# Altium footprint library MEGA.PcbLib: 237 footprints (part 9 of 15)
Each footprint in its own frame and in the unit in brackets; x right, y up, seen from the top. Pads: shape width x height; smd on the part's side, far side on the other; paste and mask are expansions set on the pad; w line width, h text height; cw(c..) or ccw(c..) is an arc to the next point about the centre after c.
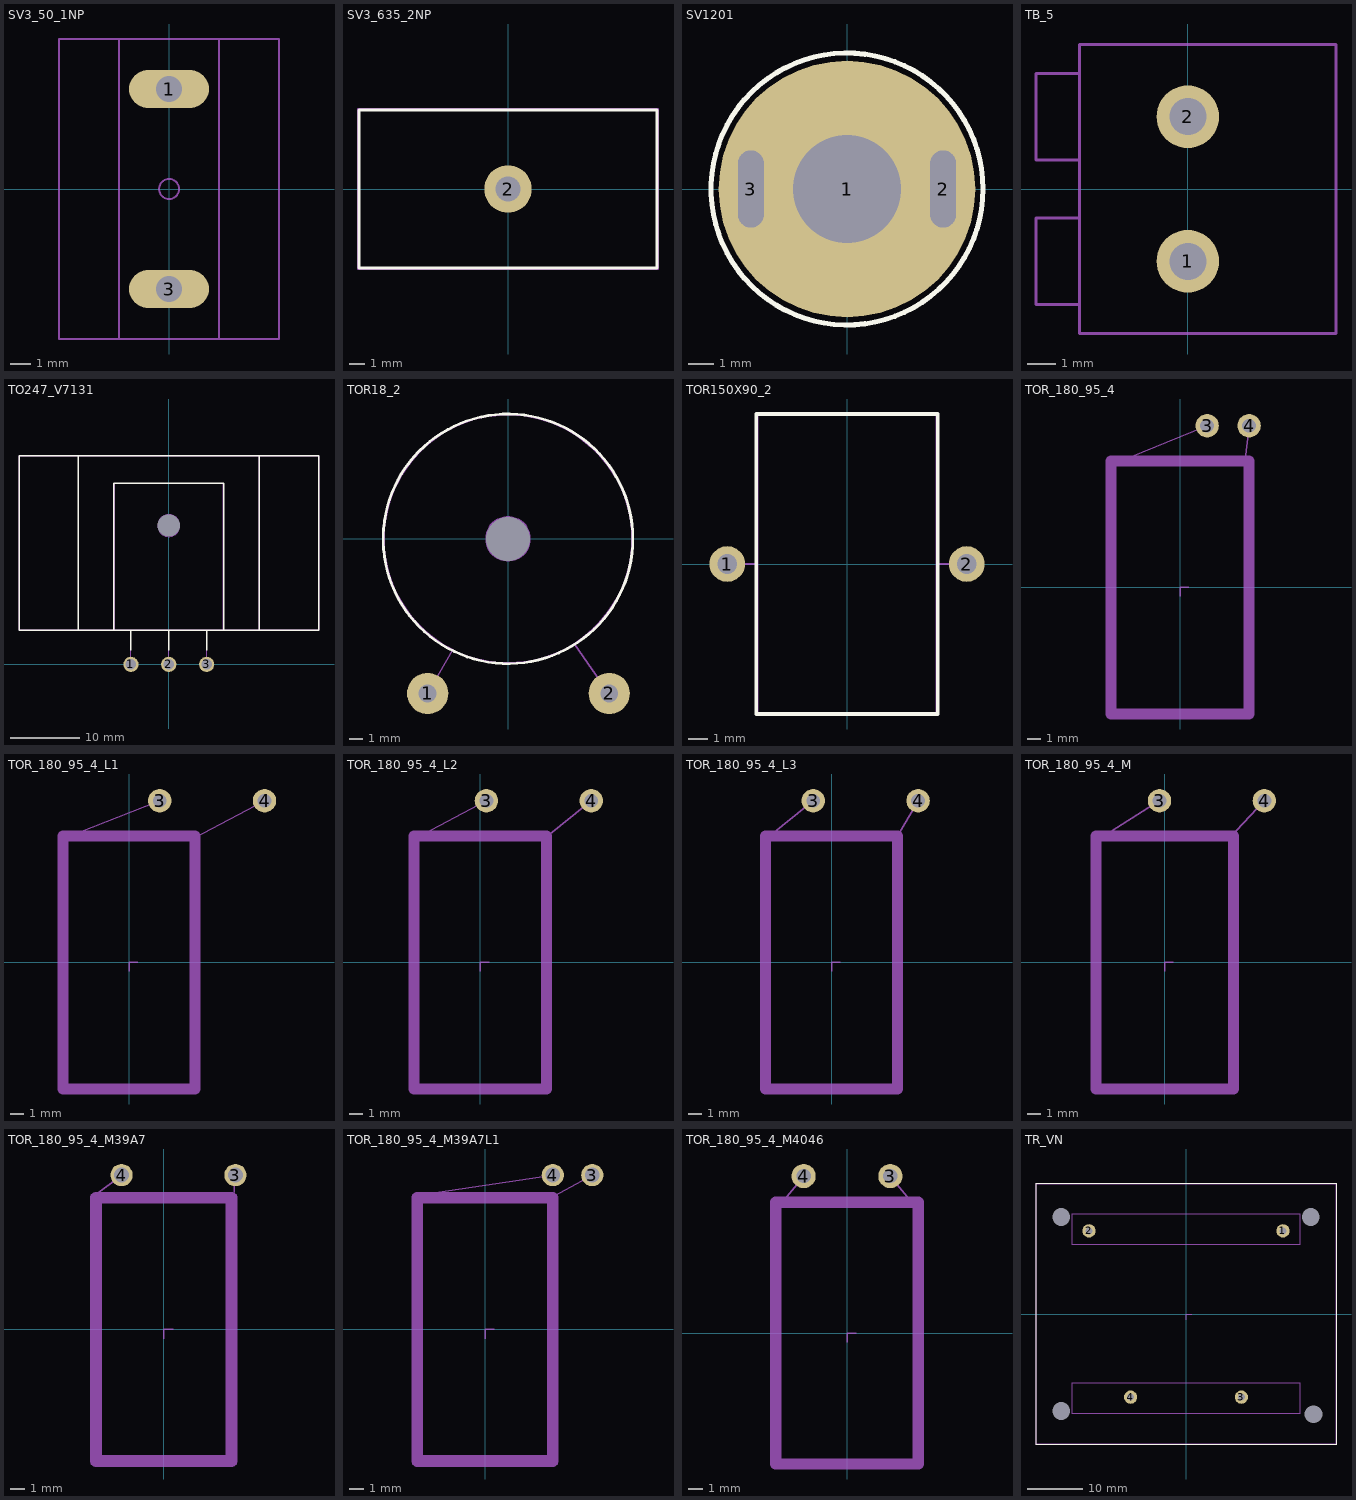
[diagram p8: the footprints below, top view; thin cyan lines are the x and y axes]

## SV3_50_1NP [mm]
pads (2):
  oval 4x1.9 hole 1.3 mask+0.1: 1(0,5) 3(0,-5)
Mechanical 15:
  circle w0.1: c0,5 r0.65
  circle w0.1: c0,-5 r0.65
  lines w0.1: -5.5,-7.5 5.5,-7.5 5.5,7.5 -5.5,7.5 -5.5,-7.5
Mechanical 16:
  circle w0.1: c0,-5 r0.65
  circle w0.1: c0,5 r0.65
Mechanical 19:
  circle w0.1: c0,0 r0.5
  lines w0.1: -2.5,-7.5 -2.5,7.5 ; 2.5,-7.5 2.5,7.5

## SV3_635_2NP [mm]
height 9.5
pads (1):
  round 3 hole 1.6 mask+0.1: 2(0,0)
Top Overlay:
  lines w0.2: -9.461,-5.016 9.461,-5.016 9.461,5.016 -9.461,5.016 -9.461,-5.016
Mechanical 15:
  lines w0.1: -9.525,-5.08 9.525,-5.08 9.525,5.08 -9.525,5.08 -9.525,-5.08
Mechanical 20:
  lines w0.1: -9.461,-5.016 9.461,-5.016 9.461,5.016 -9.461,5.016 -9.461,-5.016

## SV1201 [mm]
pads (3):
  round 10 / inner round 10 / far side oval 10x6.2 hole 4.2 mask+0.05: 1(0,0)
  oval 2.2x4.2 hole 1 slot 3 at 90 deg mask+0.05: 2(3.746,0) 3(-3.746,0)
Top Overlay:
  circle w0.2: c0,0 r5.3
Mechanical 15:
  lines w0.01: -2.303,-4.198 cw(c-0.024,0) -2.296,4.202 ; -2.301,-4.2 ccw(c0,-0.1) 2.301,-4.2 ccw(c0.03,0) 2.301,4.2 ; -2.3,4.2 -1.3,4.2 -1.3,4.6 1.3,4.6 1.3,4.2 2.3,4.2
Multi-Layer:
  text "Value" at -1.19,-1.777 h0.75
Mechanical 20:
  circle w0.01: c0,0 r5.3

## TB_5 [mm]
pads (2):
  round 2.2 hole 1.3 mask+0.1: 1(0,-2.54) 2(0,2.54)
Mechanical 15:
  lines w0.1: -5.334,-4.064 -5.334,-1.016 -3.81,-1.016 -3.81,-4.064 -5.334,-4.064 ; -5.334,1.016 -5.334,4.064 -3.81,4.064 -3.81,1.016 -5.334,1.016 ; -3.81,-5.08 5.207,-5.08 5.207,5.08 -3.81,5.08 -3.81,-5.08

## TO247_V7131 [mm]
pads (4):
  round 2.2 hole 1.5 mask+0.1: 1(-5.461,0) 2(0,0) 3(5.461,0)
  round 0 hole 3.2 unplated: HL1(0,20.002)
Top Overlay:
  lines w0.2: -13.018,4.953 -13.018,30.035 ; -7.938,4.953 -7.938,26.098 7.938,26.098 7.938,4.953 ; -5.461,2.032 -5.461,4.953 ; 0,2.032 0,4.953 ; 5.461,2.032 5.461,4.953 ; 13.018,4.953 13.018,30.035 ; -21.59,4.953 21.653,4.953 21.653,30.035 -21.59,30.035 -21.59,4.953
Mechanical 15:
  circle w0.1: c0,20.002 r1.6
  lines w0.1: -13.018,5.016 -13.018,29.972 ; -5.461,0 -5.461,5.016 ; 0,0 0,5.016 ; 5.461,0 5.461,5.016 ; 13.018,5.016 13.018,29.972 ; -21.526,5.016 21.59,5.016 21.59,29.972 -21.526,29.972 -21.526,5.016 ; -7.874,5.016 7.874,5.016 7.874,26.035 -7.874,26.035 -7.874,5.016
Mechanical 16:
  circle w0.1: c0,20.002 r1.6
Multi-Layer:
  text "Value" at -1.135,8.378 h0.75
Mechanical 20:
  lines w0.1: -21.59,4.953 21.653,4.953 21.653,30.035 -21.59,30.035 -21.59,4.953

## TOR18_2 [mm]
pads (3):
  round 3 hole 1.3 mask+0.1: 1(-5.842,-11.239) 2(7.366,-11.239)
  round 0 hole 3.2 unplated: HL1(0,0)
Top Overlay:
  circle w0.2: c0,0 r9.08
Mechanical 15:
  circle w0.1: c0,0 r9.017
  circle w0.1: c0,0 r1.6
  lines w0.1: -5.842,-11.239 -4,-8.064 ; 4.826,-7.62 7.366,-11.303
Mechanical 16:
  circle w0.1: c0,0 r1.6
Mechanical 20:
  circle w0.1: c0,0 r9.08

## TOR150X90_2 [mm]
pads (2):
  round 1.8 hole 1 mask+0.1: 1(-6.032,0) 2(6.032,0)
Top Overlay:
  lines w0.2: -4.572,-7.556 4.572,-7.556 4.572,7.556 -4.572,7.556 -4.572,-7.556
Mechanical 15:
  lines w0.1: -6,0 -4.5,0 ; 4.5,0 6,0 ; -4.5,-7.5 4.5,-7.5 4.5,7.5 -4.5,7.5 -4.5,-7.5
Multi-Layer:
  text "Value" at -1.235,-1.425 h0.75
Mechanical 20:
  lines w0.1: -4.572,-7.556 4.572,-7.556 4.572,7.556 -4.572,7.556 -4.572,-7.556

## TOR_180_95_4 [mm]
pads (2):
  round 1.7 hole 1 mask+0.1: 3(1.968,11.747) 4(5.016,11.747)
Mechanical 15:
  circle w0.1: c1.968,11.747 r0.5
  circle w0.1: c5.016,11.747 r0.5
  lines w0.1: -4.699,9.017 1.968,11.747 ; 4.699,9.017 5.016,11.747 ; -4.8,-9 4.8,-9 4.8,9 -4.8,9 -4.8,-9
Mechanical 16:
  circle w0.1: c1.968,11.747 r0.5
  circle w0.1: c5.016,11.747 r0.5
  lines w0.8: -5,-9.2 -5,9.2 5,9.2 5,-9.2 -5,-9.2
Multi-Layer:
  text "Value" at -1.235,-0.869 h0.75
Mechanical 19:
  lines w0.1: 0,-0.635 0,0 0.635,0
Mechanical 20:
  lines w0.1: -4.889,-9.08 4.889,-9.08 4.889,9.08 -4.889,9.08 -4.889,-9.08

## TOR_180_95_4_L1 [mm]
pads (2):
  round 1.7 hole 1 mask+0.1: 3(2.222,11.747) 4(9.842,11.747)
Mechanical 15:
  circle w0.1: c2.222,11.747 r0.5
  circle w0.1: c9.842,11.747 r0.5
  lines w0.1: -4.699,9.017 2.222,11.747 ; 4.699,9.017 9.842,11.747 ; -4.8,-9 4.8,-9 4.8,9 -4.8,9 -4.8,-9
Mechanical 16:
  circle w0.1: c2.222,11.747 r0.5
  circle w0.1: c9.842,11.747 r0.5
  lines w0.8: -4.8,-9.2 -4.8,9.2 4.8,9.2 4.8,-9.2 -4.8,-9.2
Multi-Layer:
  text "Value" at -1.235,-0.869 h0.75
Mechanical 19:
  lines w0.1: 0,-0.635 0,0 0.635,0
Mechanical 20:
  lines w0.1: -4.889,-9.08 4.889,-9.08 4.889,9.08 -4.889,9.08 -4.889,-9.08

## TOR_180_95_4_L2 [mm]
pads (2):
  round 1.7 hole 1 mask+0.1: 3(0.445,11.747) 4(8.064,11.747)
Mechanical 15:
  circle w0.1: c0.445,11.747 r0.5
  circle w0.1: c8.064,11.747 r0.5
  lines w0.1: -4.699,9.017 0.445,11.747 ; 4.699,9.017 8.064,11.747 ; -4.8,-9 4.8,-9 4.8,9 -4.8,9 -4.8,-9
Mechanical 16:
  circle w0.1: c0.445,11.747 r0.5
  circle w0.1: c8.064,11.747 r0.5
  lines w0.8: -4.8,-9.2 -4.8,9.2 4.8,9.2 4.8,-9.2 -4.8,-9.2
Multi-Layer:
  text "Value" at -1.235,-0.869 h0.75
Mechanical 19:
  lines w0.1: 0,-0.635 0,0 0.635,0
Mechanical 20:
  lines w0.1: -4.889,-9.08 4.889,-9.08 4.889,9.08 -4.889,9.08 -4.889,-9.08

## TOR_180_95_4_L3 [mm]
pads (2):
  round 1.7 hole 1 mask+0.1: 3(-1.333,11.747) 4(6.286,11.747)
Mechanical 15:
  circle w0.1: c-1.333,11.747 r0.5
  circle w0.1: c6.286,11.747 r0.5
  lines w0.1: -4.699,9.017 -1.333,11.747 ; 4.699,9.017 6.286,11.747 ; -4.8,-9 4.8,-9 4.8,9 -4.8,9 -4.8,-9
Mechanical 16:
  circle w0.1: c-1.333,11.747 r0.5
  circle w0.1: c6.286,11.747 r0.5
  lines w0.8: -4.8,-9.2 -4.8,9.2 4.8,9.2 4.8,-9.2 -4.8,-9.2
Multi-Layer:
  text "Value" at -1.235,-0.869 h0.75
Mechanical 19:
  lines w0.1: 0,-0.635 0,0 0.635,0
Mechanical 20:
  lines w0.1: -4.889,-9.08 4.889,-9.08 4.889,9.08 -4.889,9.08 -4.889,-9.08

## TOR_180_95_4_M [mm]
pads (2):
  round 1.7 hole 1 mask+0.1: 3(-0.381,11.747) 4(7.239,11.747)
Mechanical 15:
  circle w0.1: c-0.381,11.747 r0.5
  circle w0.1: c7.239,11.747 r0.5
  lines w0.1: -4.699,9.017 -0.381,11.747 ; 4.699,9.017 7.239,11.747 ; -4.8,-9 4.8,-9 4.8,9 -4.8,9 -4.8,-9
Mechanical 16:
  circle w0.1: c-0.381,11.747 r0.5
  circle w0.1: c7.239,11.747 r0.5
  lines w0.8: -5,-9.2 -5,9.2 5,9.2 5,-9.2 -5,-9.2
Multi-Layer:
  text "Value" at -1.235,-0.869 h0.75
Mechanical 19:
  lines w0.1: 0,-0.635 0,0 0.635,0
Mechanical 20:
  lines w0.1: -4.889,-9.08 4.889,-9.08 4.889,9.08 -4.889,9.08 -4.889,-9.08

## TOR_180_95_4_M39A7 [mm]
pads (2):
  round 1.5 hole 1 mask+0.05: 3(4.826,10.414) 4(-2.857,10.414)
Mechanical 15:
  circle w0.1: c-2.857,10.414 r0.5
  circle w0.1: c4.826,10.414 r0.5
  lines w0.1: -4.699,9.017 -2.857,10.414 ; 4.699,9.017 4.826,10.414 ; -4.8,-9 4.8,-9 4.8,9 -4.8,9 -4.8,-9
Mechanical 16:
  circle w0.1: c-2.857,10.414 r0.5
  circle w0.1: c4.826,10.414 r0.5
  lines w0.8: -4.572,-8.89 -4.572,8.89 4.572,8.89 4.572,-8.89 -4.572,-8.89
Multi-Layer:
  text "Value" at -1.235,-0.869 h0.75
Mechanical 19:
  lines w0.1: 0,-0.635 0,0 0.635,0
Mechanical 20:
  lines w0.1: -4.889,-9.08 4.889,-9.08 4.889,9.08 -4.889,9.08 -4.889,-9.08

## TOR_180_95_4_M39A7L1 [mm]
pads (2):
  round 1.5 hole 1 mask+0.05: 3(7.239,10.414) 4(4.572,10.414)
Mechanical 15:
  circle w0.1: c4.572,10.414 r0.5
  circle w0.1: c7.239,10.414 r0.5
  lines w0.1: -4.699,9.017 4.572,10.414 ; 4.699,9.017 7.239,10.414 ; -4.8,-9 4.8,-9 4.8,9 -4.8,9 -4.8,-9
Mechanical 16:
  circle w0.1: c4.572,10.414 r0.5
  circle w0.1: c7.239,10.414 r0.5
  lines w0.8: -4.572,-8.89 -4.572,8.89 4.572,8.89 4.572,-8.89 -4.572,-8.89
Mechanical 19:
  lines w0.1: 0,-0.635 0,0 0.635,0
Mechanical 20:
  lines w0.1: -4.889,-9.08 4.889,-9.08 4.889,9.08 -4.889,9.08 -4.889,-9.08

## TOR_180_95_4_M4046 [mm]
pads (2):
  round 1.7 hole 1 mask+0.1: 3(3.048,11.049) 4(-3.048,11.049)
Mechanical 15:
  circle w0.1: c-3.048,11.049 r0.5
  circle w0.1: c3.048,11.049 r0.5
  lines w0.1: -4.699,9.017 -3.048,11.049 ; 3.048,11.049 4.699,9.017 ; -4.8,-9 4.8,-9 4.8,9 -4.8,9 -4.8,-9
Mechanical 16:
  circle w0.1: c-3.048,11.049 r0.5
  circle w0.1: c3.048,11.049 r0.5
  lines w0.8: -5,-9.2 -5,9.2 5,9.2 5,-9.2 -5,-9.2
Multi-Layer:
  text "Value" at -1.235,-0.869 h0.75
Mechanical 19:
  lines w0.1: 0,-0.635 0,0 0.635,0
Mechanical 20:
  lines w0.1: -4.889,-9.08 4.889,-9.08 4.889,9.08 -4.889,9.08 -4.889,-9.08

## TR_VN [mm]
pads (8):
  round 2.4 hole 1.3 mask+0.05: 1(17.5,15) 2(-17.5,15) 3(10,-15) 4(-10,-15)
  round 0 hole 3.2 unplated: 5(-22.5,17.5) 6(-22.5,-17.5) 7(23,-18.1) 8(22.5,17.5)
Top Overlay:
  lines w0.2: -27.066,-23.589 27.066,-23.589 27.066,23.589 -27.066,23.589 -27.066,-23.589
Mechanical 15:
  lines w0.1: -27.002,-23.526 27.002,-23.526 27.002,23.526 -27.002,23.526 -27.002,-23.526 ; -20.5,-18 20.5,-18 20.5,-12.4 -20.5,-12.4 -20.5,-18 ; -20.5,12.5 20.5,12.5 20.5,18.1 -20.5,18.1 -20.5,12.5
Multi-Layer:
  text "Value" at -1.235,-0.869 h0.75
Mechanical 19:
  lines w0.1: 0,-1 0,0 1,0
Mechanical 20:
  lines w0.1: -27.066,-23.589 27.066,-23.589 27.066,23.589 -27.066,23.589 -27.066,-23.589